# Altium footprint library 3v3module.PcbLib: 1 footprints
Each footprint in its own frame and in the unit in brackets; x right, y up, seen from the top. Pads: shape width x height; smd on the part's side, far side on the other; paste and mask are expansions set on the pad; w line width, h text height; cw(c..) or ccw(c..) is an arc to the next point about the centre after c.
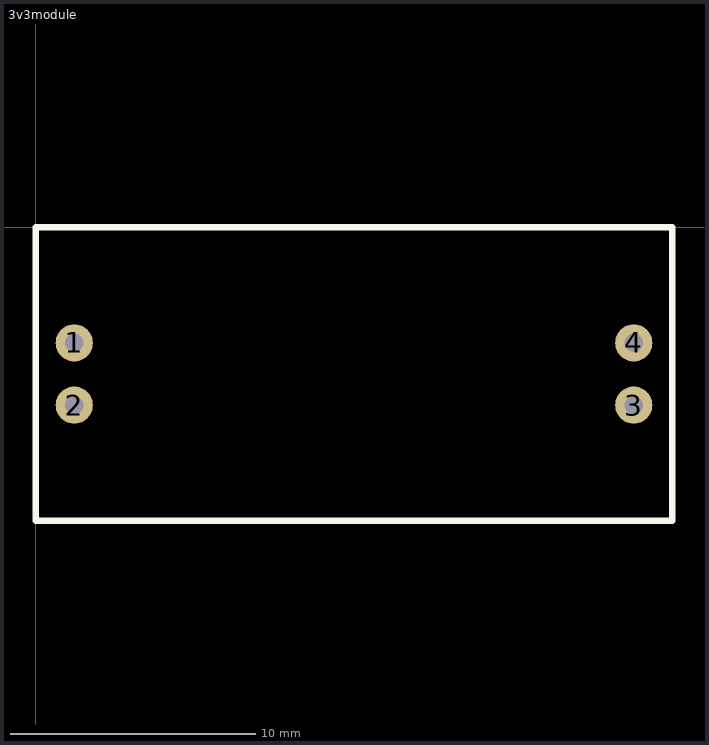
[diagram p0: the footprint, top view; thin cyan lines are the x and y axes]

## 3v3module [mil]
pads (4):
  round 60 hole 30: 1(61.81,-186.22) 2(61.81,-286.22) 3(961.81,-286.22) 4(961.81,-186.22)
Top Overlay:
  lines w10: 0,-472.44 0,0 1023.62,0 1023.62,-472.44 0,-472.44